# EAGLE library part ATTINY24/44/84 (library SW_Microcontroller)
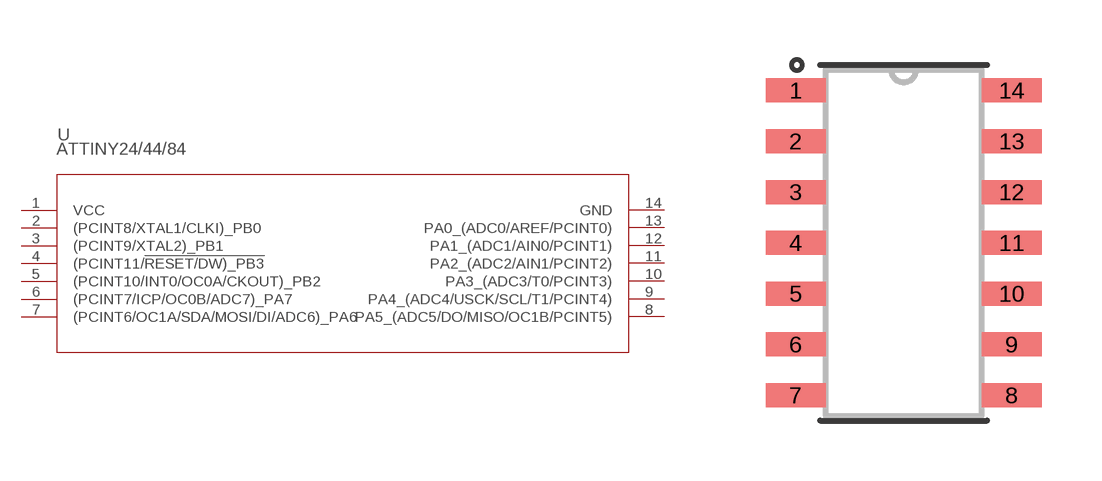
[diagram p4: symbol with the pads of SOIC-14; footprint SOIC-14]

Designator prefix U

## ATTINY24/44/84 (CATEGORY: Microcontroller; DESCRIPTION: AVR series Microcontroller IC 8-Bit 20MHz 4KB (2K x 16) FLASH 14-SOIC; MFGS: Microchip Technology; MPNS: ATTINY44A-SSNR; PACKAGE: SOIC-14)  [SOIC-14]
1  VCC  pwr
2  (PCINT8/XTAL1/CLKI)_PB0
3  (PCINT9/XTAL2)_PB1
4  (PCINT11/!RESET/DW)_PB3
5  (PCINT10/INT0/OC0A/CKOUT)_PB2  out
6  (PCINT7/ICP/OC0B/ADC7)_PA7
7  (PCINT6/OC1A/SDA/MOSI/DI/ADC6)_PA6
8  PA5_(ADC5/DO/MISO/OC1B/PCINT5)
9  PA4_(ADC4/USCK/SCL/T1/PCINT4)
10  PA3_(ADC3/T0/PCINT3)
11  PA2_(ADC2/AIN1/PCINT2)  in
12  PA1_(ADC1/AIN0/PCINT1)
13  PA0_(ADC0/AREF/PCINT0)
14  GND  pas

## Footprint SOIC-14 (pad centres in mm)
smd 1.5 x 0.6: 1 -2.7,3.81; 2 -2.7,2.54; 3 -2.7,1.27; 4 -2.7,0; 5 -2.7,-1.27; 6 -2.7,-2.54; 7 -2.7,-3.81; 8 2.7,-3.81; 9 2.7,-2.54; 10 2.7,-1.27; 11 2.7,0; 12 2.7,1.27; 13 2.7,2.54; 14 2.7,3.81